# Altium footprint library MC7805CT_5v.PcbLib: 1 footprints
Each footprint in its own frame and in the unit in brackets; x right, y up, seen from the top. Pads: shape width x height; smd on the part's side, far side on the other; paste and mask are expansions set on the pad; w line width, h text height; cw(c..) or ccw(c..) is an arc to the next point about the centre after c.

## MC7805CT_5V [mm] "MC7805CT 5V Linear voltage regulator"
height 30.02
via 7.239,0 diameter 1.52 hole 1.52
via 2.921,0 diameter 1.52 hole 1.52
via 0,0 diameter 1.52 hole 1.52
3D body: height 30.02, standoff 14.27, extent -1.27,-1.27 8.89,1.27